# EAGLE library part 103ET2- (library inductor-neosid)
FILTER triple helix bandpass filter with 2 tab, type E
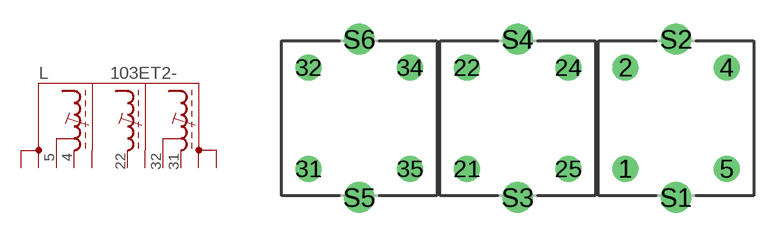
[diagram p13: symbol with the pads of H103E; footprint H103E]

Designator prefix L

## 103ET2-5423231 (OC_FARNELL: unknown; OC_NEWARK: unknown)  [H103E]
4  GND1  pas
5  IN  pas
22  GND2  pas
31  GND3  pas
32  OUT1  pas
S1  S1  pas
S2  S2  pas
S3  S3  pas
S4  S4  pas
S5  S5  pas
S6  S6  pas

## Footprint H103E (pad centres in mm)
TRIPLE RF COIL ASSEMBLY 10.1, 4 pads, grid 2.5, 10 x 10 x 15 mm
drill 1.1: 1 6.8,-3.45; 2 6.8,2.95; 4 13.2,2.95; 5 13.2,-3.45; 21 -3.2,-3.45; 22 -3.2,2.95; 24 3.2,2.95; 25 3.2,-3.45; 31 -13.2,-3.45; 32 -13.2,2.95; 34 -6.8,2.95; 35 -6.8,-3.45
drill 1.3: S1 10,-5.25; S2 10,4.75; S3 0,-5.25; S4 0,4.75; S5 -10,-5.25; S6 -10,4.75